# Altium footprint library Smart_Gateway_Rev1.0.PcbLib: 49 footprints (part 1 of 4)
Each footprint in its own frame and in the unit in brackets; x right, y up, seen from the top. Pads: shape width x height; smd on the part's side, far side on the other; paste and mask are expansions set on the pad; w line width, h text height; cw(c..) or ccw(c..) is an arc to the next point about the centre after c.
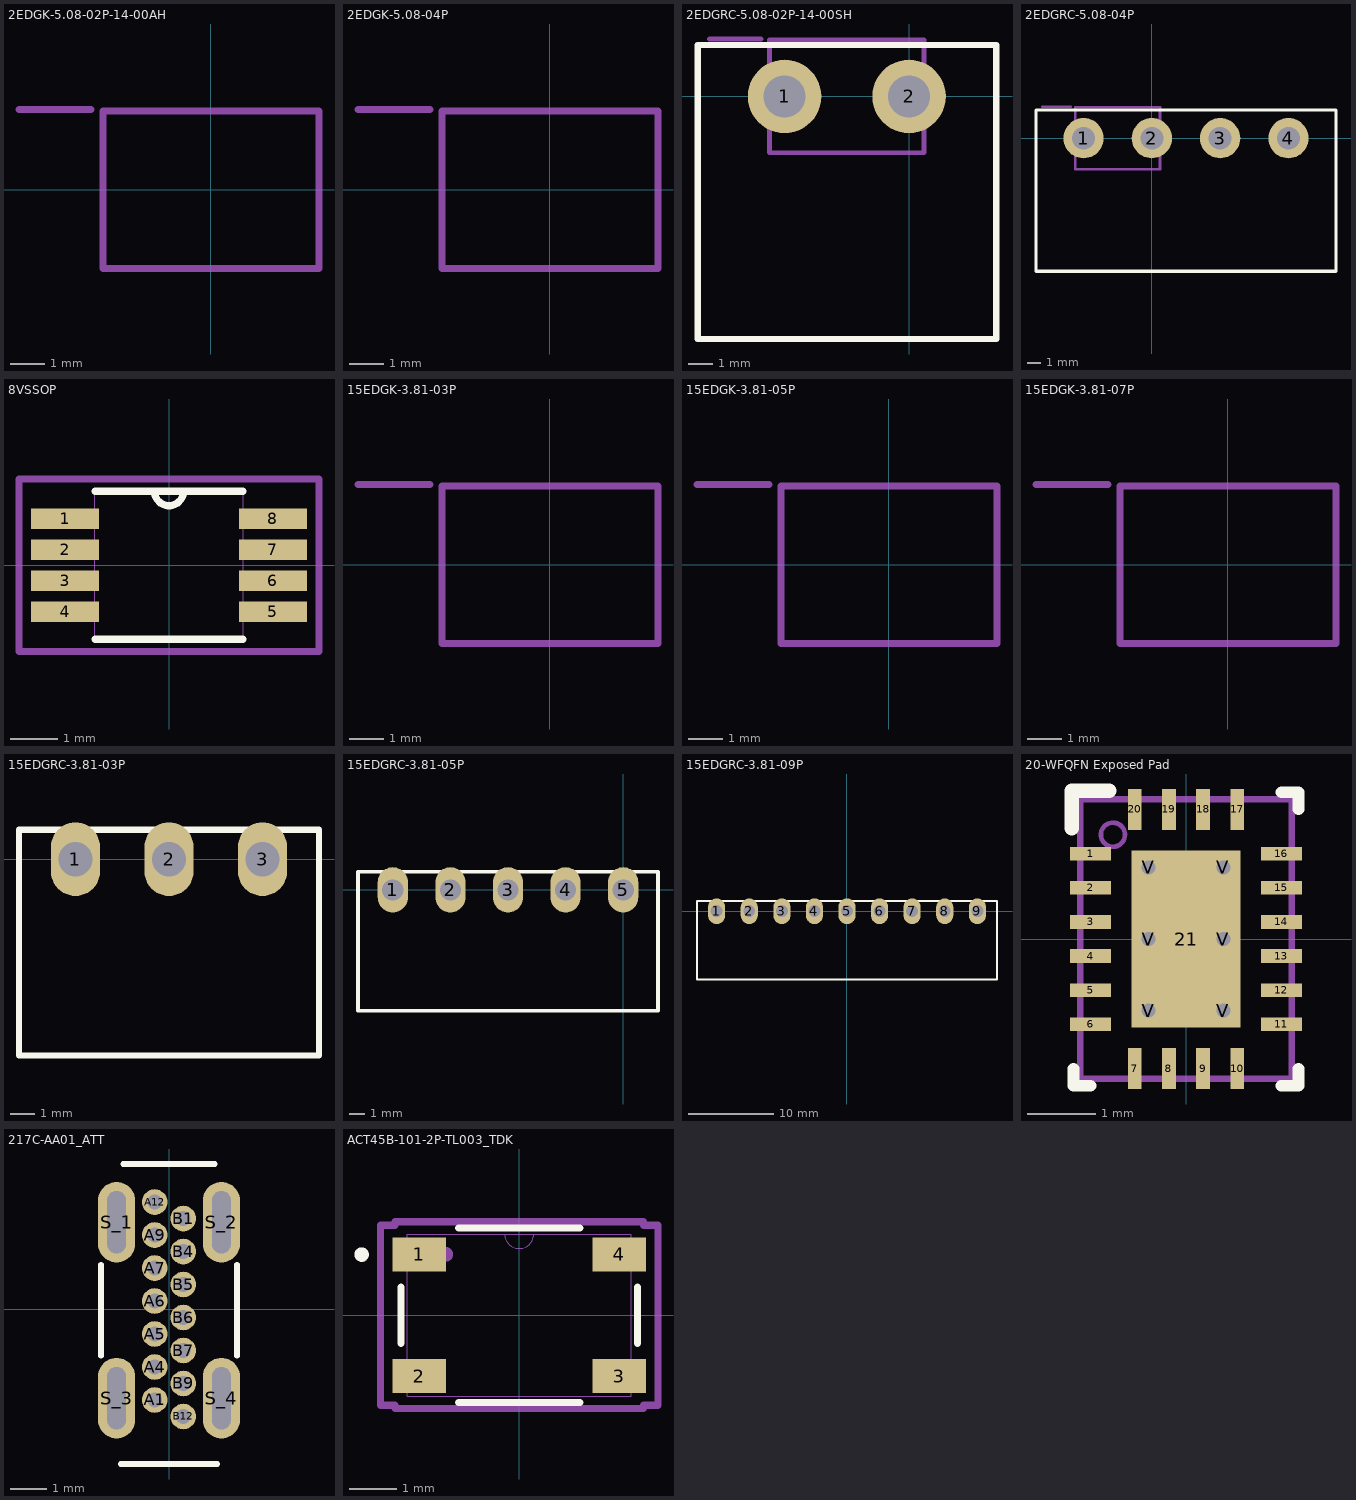
[diagram p0: the footprints below, top view; thin cyan lines are the x and y axes]

## 2EDGK-5.08-02P-14-00AH [mm] "TERM.BLK.5.08MM 2P FEMALE GREEN"
Mechanical 22:
  lines w0.2: -5.6,2.345 -3.5,2.345 ; -3.15,-2.3 -3.15,2.3 3.15,2.3 3.15,-2.3 -3.15,-2.3
3D body "2EDGK-5.08-02P-14-1000A(H)-T0.stp": height 15.25, standoff 0.25, extent -8.2,-7.9 10,2.26

## 2EDGK-5.08-04P [mm] "TERM.BLK.5.08MM 2P FEMALE GREEN"
Mechanical 22:
  lines w0.2: -5.6,2.345 -3.5,2.345 ; -3.15,-2.3 3.15,-2.3 3.15,2.3 -3.15,2.3 -3.15,-2.3
3D body "2EDGK-5.08-04P-14-1000A(H)-T0.stp": height 15.25, standoff 0.25, extent -8.59,-10.5 9.61,9.82

## 2EDGRC-5.08-02P-14-00SH [mm] "TERM.BLK.5.08MM 2P 90C MALE GREEN CLOSED"
pads (2):
  round 3 hole 1.7: 1(-5.08,0) 2(0,0)
Top Overlay:
  lines w0.254: -8.62,-9.9 -8.62,2.1 3.556,2.1 3.556,-9.9 -8.62,-9.9
Mechanical 22:
  lines w0.2: -8.14,2.345 -6.04,2.345 ; -5.69,-2.3 -5.69,2.3 0.61,2.3 0.61,-2.3 -5.69,-2.3
3D body "2EDGRC-5.08-02P-14-100AH.stp": height 8.6, standoff -3.1, extent -8.604,-9.906 3.556,2.094

## 2EDGRC-5.08-04P [mm] "TERM.BLK.5.08MM 2P 90C MALE GREEN CLOSED"
pads (4):
  round 3 hole 1.7: 1(-5.08,0) 2(0,0) 3(5.08,0) 4(10.16,0)
Top Overlay:
  lines w0.254: -8.62,-9.9 -8.62,2.1 13.7,2.1 13.7,-9.9 -8.62,-9.9
Mechanical 22:
  lines w0.2: -8.14,2.345 -6.04,2.345 ; -5.69,-2.3 -5.69,2.3 0.61,2.3 0.61,-2.3 -5.69,-2.3
3D body "2EDGRC-5.08-04P-14-100AH.stp": height 8.61, standoff -3.09, extent -8.62,-9.9 13.7,2.1

## 8VSSOP [mil]
pads (8):
  rect 56x17 smd paste-28 mask-28: 1(-85.5,38.39) 2(-85.5,12.8) 3(-85.5,-12.8) 4(-85.5,-38.39) 5(85.5,-38.39) 6(85.5,-12.8) 7(85.5,12.8) 8(85.5,38.39)
Top Overlay:
  lines w6: -61,-61 61,-61 ; -61,61 61,61 ; -12,61 ccw(c0,61) 12,61
  text "." at -95,75 h50
Mechanical 13:
  lines w0: -12,61 ccw(c0,61) 12,61
  lines w1: -99.5,-45.89 -99.5,-30.89 -61,-30.89 -61,-45.89 -99.5,-45.89 ; -99.5,-20.3 -99.5,-5.3 -61,-5.3 -61,-20.3 -99.5,-20.3 ; -99.5,5.3 -99.5,20.3 -61,20.3 -61,5.3 -99.5,5.3 ; -99.5,30.89 -99.5,45.89 -61,45.89 -61,30.89 -99.5,30.89 ; -61,-61 61,-61 61,61 -61,61 -61,-61 ; 61,-45.89 61,-30.89 99.5,-30.89 99.5,-45.89 61,-45.89 ; 61,-20.3 61,-5.3 99.5,-5.3 99.5,-20.3 61,-20.3 ; 61,5.3 61,20.3 99.5,20.3 99.5,5.3 61,5.3 ; 61,30.89 61,45.89 99.5,45.89 99.5,30.89 61,30.89
  text "*" at -108,50.39 h50
Mechanical 15:
  lines w6: -123.5,-71 -123.5,71 123.5,71 123.5,-71 -123.5,-71
3D body "DGK8.step": height 43.11, standoff 0, extent -99.49,-60.98 99.49,60.98

## 15EDGK-3.81-03P [mm] "TERM.BLK.3.81MM 3P FEMALE GREEN"
Mechanical 22:
  lines w0.2: -5.6,2.345 -3.5,2.345 ; -3.15,-2.3 -3.15,2.3 3.15,2.3 3.15,-2.3 -3.15,-2.3
3D body "15EDGK-3.81-03P-14-00A&Z(H).stp": height 9.55, standoff -1.55, extent -6.53,-8.69 5.69,6.91

## 15EDGK-3.81-05P [mm] "TERM.BLK.3.81MM 5P FEMALE GREEN"
Mechanical 22:
  lines w0.2: -5.6,2.345 -3.5,2.345 ; -3.15,-2.3 3.15,-2.3 3.15,2.3 -3.15,2.3 -3.15,-2.3
3D body "15EDGK-3.81-05P-14-00A&Z(H).stp": height 9.55, standoff -1.55, extent -14.15,-8.69 5.69,6.91

## 15EDGK-3.81-07P [mm] "TERM.BLK.3.81MM 7P FEMALE GREEN"
Mechanical 22:
  lines w0.2: -5.6,2.345 -3.5,2.345 ; -3.15,-2.3 -3.15,2.3 3.15,2.3 3.15,-2.3 -3.15,-2.3
3D body "15EDGK-3.81-07P-14-00A&Z(H).stp": height 12.55, standoff 1.45, extent -12.714,-3.937 14.746,11.663

## 15EDGKA-3.81-03P [mm]
3D body "15EDGKA-3.81-03P-1Y-100A&Z(H) (1).stp": height 5.25, standoff -5.25, extent -4.41,-7.86 7.81,11.24

## 15EDGKA-3.81-05P [mm]
3D body "15EDGKA-3.81-05P-1Y-100A&Z(H).stp": height 5.25, standoff -5.25, extent -18.9,-12.19 0.94,6.91

## 15EDGRC-3.81-03P [mm]
pads (3):
  oval 2x3 hole 1.4: 1(-15.24,0) 2(-11.43,0) 3(-7.62,0)
Top Overlay:
  lines w0.254: -17.54,-8 -5.32,-8 ; -17.54,-7.99 -17.54,1.2 -5.32,1.2 -5.32,-7.99
3D body "15EDGRC-3.81-03P-1Y-13A&Z(H).stp": height 7.29, standoff -3.35, extent -17.54,-8 -5.32,1.2

## 15EDGRC-3.81-05P [mm]
pads (5):
  oval 2x3 hole 1.4: 1(-15.24,0) 2(-11.43,0) 3(-7.62,0) 4(-3.81,0) 5(0,0)
Top Overlay:
  lines w0.254: -17.54,-8 2.3,-8 2.3,1.2 ; -17.54,-7.99 -17.54,1.2 2.3,1.2 ; 2.3,-7.99 2.3,1.2
3D body "15EDGRC-3.81-05P-1Y-13A&Z(H).stp": height 7.29, standoff -3.35, extent -17.54,-8 2.3,1.2

## 15EDGRC-3.81-09P [mm]
pads (9):
  oval 2x3 hole 1.4: 1(-15.24,0) 2(-11.43,0) 3(-7.62,0) 4(-3.81,0) 5(0,0) 6(3.81,0) 7(7.62,0) 8(11.43,0) 9(15.24,0)
Top Overlay:
  lines w0.254: -17.54,-8 17.54,-8 17.54,1.2 -17.54,1.2 -17.54,-7.99
3D body "15EDGRC-3.81-09P-14-00A(H).stp": height 7.29, standoff -3.35, extent -17.54,-8 17.54,1.2

## 20-WFQFN Exposed Pad [mm]
pads (27):
  rect 0.6x0.2 smd paste+0 mask+0.051: 1(-1.4,1.25) 2(-1.4,0.75) 3(-1.4,0.25) 4(-1.4,-0.25) 5(-1.4,-0.75) 6(-1.4,-1.25) 11(1.4,-1.25) 12(1.4,-0.75) 13(1.4,-0.25) 14(1.4,0.25) 15(1.4,0.75) 16(1.4,1.25)
  rect 0.2x0.6 smd paste+0 mask+0.051: 7(-0.75,-1.9) 8(-0.25,-1.9) 9(0.25,-1.9) 10(0.75,-1.9) 17(0.75,1.9) 18(0.25,1.9) 19(-0.25,1.9) 20(-0.75,1.9)
  rect 1.6x2.6 smd paste-1.287 mask+0.051: 21(0,0)
  round 0.5 / inner round 1.524 / far side round 0.5 hole 0.203 paste-0.25 mask+0.051: V(-0.55,-1.05) V(-0.55,0) V(-0.55,1.05) V(0.55,-1.05) V(0.55,0) V(0.55,1.05)
Top Overlay:
  lines w0.17: -1.65,-1.9 -1.65,-2.15 -1.4,-2.15 ; 1.4,-2.15 1.65,-2.15 1.65,-1.9 ; 1.4,2.15 1.65,2.15 1.65,1.9
  lines w0.21: -1.675,1.625 -1.675,2.175 -1.125,2.175
Mechanical 13:
  circle w0.07: c-1.072,1.53 r0.177
  lines w0.1: -1.55,-2.05 1.55,-2.05 1.55,2.05 -1.55,2.05 -1.55,-2.05
3D body "RVC0020A.stp": height 0.8, standoff 0, extent -1.457,-2.039 1.543,1.961

## 217C-AA01_ATT [mm]
pads (18):
  round 0.7 hole 0.4 paste-0.343 mask+0: A1(-0.39,-2.475) A4(-0.39,-1.575) A5(-0.39,-0.675) A6(-0.39,0.225) A7(-0.39,1.125) A9(-0.39,2.025) A12(-0.39,2.925) B1(0.39,2.475) B4(0.39,1.575) B5(0.39,0.675) B6(0.39,-0.225) B7(0.39,-1.125) B9(0.39,-2.025) B12(0.39,-2.925)
  oval 1.016x2.2 hole 0.508 slot 1.7 at 90 deg paste-1.003 mask+0: S_1(-1.43,2.375) S_2(1.43,2.375) S_3(-1.43,-2.425) S_4(1.43,-2.425)
Top Overlay:
  lines w0.152: -1.854,-1.27 -1.854,1.22 ; -1.321,-4.221 1.321,-4.221 ; -1.245,3.963 1.245,3.963 ; 1.854,-1.27 1.854,1.22
3D body "2169890001.stp": height 9.05, standoff -2.49, extent -1.871,-10.523 1.889,4.127

## ACT45B-101-2P-TL003_TDK [mil]
pads (4):
  rect 44x28 smd paste+0 mask+0: 1(-82.5,50.2) 2(-82.5,-50.2) 3(82.5,-50.2) 4(82.5,50.2)
Top Overlay:
  circle w6: c-130,50 r3
  lines w6: -97.5,-23.1 -97.5,23.1 ; -49.98,-72 49.98,-72 ; -49.98,72 49.98,72 ; 97.5,-23.1 97.5,23.1
Mechanical 13:
  circle w6: c-60.5,50.2 r3
  lines w0: -12,67 ccw(c0,67) 12,67
  lines w1: -92.5,-67 92.5,-67 92.5,67 -92.5,67 -92.5,-67
Mechanical 15:
  lines w6: -114.5,-74.2 -114.5,74.2 -102.5,74.2 -102.5,77 102.5,77 102.5,74.2 114.5,74.2 114.5,-74.2 102.5,-74.2 102.5,-77 -102.5,-77 -102.5,-74.2 -114.5,-74.2
3D body "ACT45B-101-2P-TL003_TDK.step": height 118.11, standoff 0, extent -92.52,-67.01 92.52,67.01